# Altium schematic symbol library RF Development Board.SchLib: 2 symbols
Pins are listed as number, name and electrical type; pins without a type are passive.

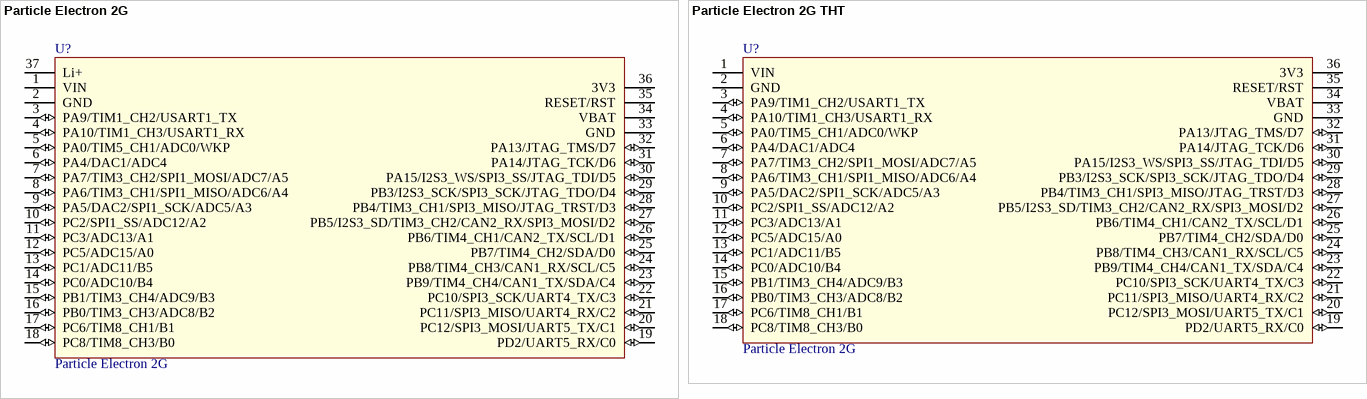
[diagram p0: symbols Particle Electron 2G to Particle Electron 2G THT]

## Particle Electron 2G
designator U?  (value not drawn)
Particle Electron 2G Development Board
pins: 1 VIN (power) "This pin can be used as an input or output. As an input, supply 5VDC to 12VDC to power the Electron. When the Electron is powered via the USB port, this pin will output a voltage of approximately 4.8VDC due to a reverse polarity protection series Schottky diode between VUSB and VIN. When used as an output, the max load on VIN is 1Amp.", 2 GND (power), 3 PA9/TIM1_CH2/USART1_TX (io) "Primarily used as UART RX, but can also be used as a digital GPIO or PWM[1].", 4 PA10/TIM1_CH3/USART1_RX (io) "Primarily used as UART TX, but can also be used as a digital GPIO or PWM[1].", 5 PA0/TIM5_CH1/ADC0/WKP (io) "Active-high wakeup pin, wakes the module from sleep/standby modes. When not used as a WAKEUP, this pin can also be used as a digital GPIO, ADC input or PWM[1]. Can be referred to as A7 when used as an ADC.", 6 PA4/DAC1/ADC4 (io) "12-bit Digital-to-Analog (D/A) output (0-4095), referred to as DAC or DAC1 in software. Can also be used as a digital GPIO or ADC. Can be referred to as A6 when used as an ADC.", 7 PA7/TIM3_CH2/SPI1_MOSI/ADC7/A5 (io) "12-bit Analog-to-Digital (A/D) inputs (0-4095), and also digital GPIOs. A6 and A7 are code convenience mappings, which means pins are not actually labeled as such but you may use code like analogRead(A7). A6 maps to the DAC pin and A7 maps to the WKP pin. A3 is also a second DAC output used as DAC2 or A3 in software. A4 and A5 can also be used as PWM[1] outputs.", 8 PA6/TIM3_CH1/SPI1_MISO/ADC6/A4 (io) "12-bit Analog-to-Digital (A/D) inputs (0-4095), and also digital GPIOs. A6 and A7 are code convenience mappings, which means pins are not actually labeled as such but you may use code like analogRead(A7). A6 maps to the DAC pin and A7 maps to the WKP pin. A3 is also a second DAC output used as DAC2 or A3 in software. A4 and A5 can also be used as PWM[1] outputs.", 9 PA5/DAC2/SPI1_SCK/ADC5/A3 (io) "12-bit Analog-to-Digital (A/D) inputs (0-4095), and also digital GPIOs. A6 and A7 are code convenience mappings, which means pins are not actually labeled as such but you may use code like analogRead(A7). A6 maps to the DAC pin and A7 maps to the WKP pin. A3 is also a second DAC output used as DAC2 or A3 in software. A4 and A5 can also be used as PWM[1] outputs.", 10 PC2/SPI1_SS/ADC12/A2 (io) "12-bit Analog-to-Digital (A/D) inputs (0-4095), and also digital GPIOs. A6 and A7 are code convenience mappings, which means pins are not actually labeled as such but you may use code like analogRead(A7). A6 maps to the DAC pin and A7 maps to the WKP pin. A3 is also a second DAC output used as DAC2 or A3 in software. A4 and A5 can also be used as PWM[1] outputs.", 11 PC3/ADC13/A1 (io) "12-bit Analog-to-Digital (A/D) inputs (0-4095), and also digital GPIOs. A6 and A7 are code convenience mappings, which means pins are not actually labeled as such but you may use code like analogRead(A7). A6 maps to the DAC pin and A7 maps to the WKP pin. A3 is also a second DAC output used as DAC2 or A3 in software. A4 and A5 can also be used as PWM[1] outputs.", 12 PC5/ADC15/A0 (io) "12-bit Analog-to-Digital (A/D) inputs (0-4095), and also digital GPIOs. A6 and A7 are code convenience mappings, which means pins are not actually labeled as such but you may use code like analogRead(A7). A6 maps to the DAC pin and A7 maps to the WKP pin. A3 is also a second DAC output used as DAC2 or A3 in software. A4 and A5 can also be used as PWM[1] outputs.", 13 PC1/ADC11/B5 (io) "B0 and B1 are digital only while B2, B3, B4, B5 are 12-bit A/D inputs as well as digital GPIOs. B0, B1, B2, B3 can also be used as PWM[1] outputs.", 14 PC0/ADC10/B4 (io) "B0 and B1 are digital only while B2, B3, B4, B5 are 12-bit A/D inputs as well as digital GPIOs. B0, B1, B2, B3 can also be used as PWM[1] outputs.", 15 PB1/TIM3_CH4/ADC9/B3 (io) "B0 and B1 are digital only while B2, B3, B4, B5 are 12-bit A/D inputs as well as digital GPIOs. B0, B1, B2, B3 can also be used as PWM[1] outputs.", 16 PB0/TIM3_CH3/ADC8/B2 (io) "B0 and B1 are digital only while B2, B3, B4, B5 are 12-bit A/D inputs as well as digital GPIOs. B0, B1, B2, B3 can also be used as PWM[1] outputs.", 17 PC6/TIM8_CH1/B1 (io) "B0 and B1 are digital only while B2, B3, B4, B5 are 12-bit A/D inputs as well as digital GPIOs. B0, B1, B2, B3 can also be used as PWM[1] outputs.", 18 PC8/TIM8_CH3/B0 (io) "B0 and B1 are digital only while B2, B3, B4, B5 are 12-bit A/D inputs as well as digital GPIOs. B0, B1, B2, B3 can also be used as PWM[1] outputs.", 19 PD2/UART5_RX/C0 (io) "Digital only GPIO. C4 and C5 can also be used as PWM[1] outputs.", 20 PC12/SPI3_MOSI/UART5_TX/C1 (io) "Digital only GPIO. C4 and C5 can also be used as PWM[1] outputs.", 21 PC11/SPI3_MISO/UART4_RX/C2 (io) "Digital only GPIO. C4 and C5 can also be used as PWM[1] outputs.", 22 PC10/SPI3_SCK/UART4_TX/C3 (io) "Digital only GPIO. C4 and C5 can also be used as PWM[1] outputs.", 23 PB9/TIM4_CH4/CAN1_TX/SDA/C4 (io) "Digital only GPIO. C4 and C5 can also be used as PWM[1] outputs.", 24 PB8/TIM4_CH3/CAN1_RX/SCL/C5 (io) "Digital only GPIO. C4 and C5 can also be used as PWM[1] outputs.", 25 PB7/TIM4_CH2/SDA/D0 (io) "Digital only GPIO. D0, D1, D2, D3 can also be used as PWM[1] outputs.", 26 PB6/TIM4_CH1/CAN2_TX/SCL/D1 (io) "Digital only GPIO. D0, D1, D2, D3 can also be used as PWM[1] outputs.", 27 PB5/I2S3_SD/TIM3_CH2/CAN2_RX/SPI3_MOSI/D2 (io) "Digital only GPIO. D0, D1, D2, D3 can also be used as PWM[1] outputs.", 28 PB4/TIM3_CH1/SPI3_MISO/JTAG_TRST/D3 (io) "Digital only GPIO. D0, D1, D2, D3 can also be used as PWM[1] outputs.", 29 PB3/I2S3_SCK/SPI3_SCK/JTAG_TDO/D4 (io) "Digital only GPIO. D0, D1, D2, D3 can also be used as PWM[1] outputs.", 30 PA15/I2S3_WS/SPI3_SS/JTAG_TDI/D5 (io) "Digital only GPIO. D0, D1, D2, D3 can also be used as PWM[1] outputs.", 31 PA14/JTAG_TCK/D6 (io) "Digital only GPIO. D0, D1, D2, D3 can also be used as PWM[1] outputs.", 32 PA13/JTAG_TMS/D7 (io) "Digital only GPIO. D0, D1, D2, D3 can also be used as PWM[1] outputs.", 33 GND (power), 34 VBAT (power) "Supply to the internal RTC, backup registers and SRAM when 3V3 is not present (1.65 to 3.6VDC). The Pin is internally connected to 3V3 supply via a 0 ohm resistor. If you wish to power is via an external supply, you'll need to remove this resistor. Instructions to remove this resistor can be found here", 35 RESET/RST "Active-low reset input. On-board circuitry contains a 10k ohm pull-up resistor between RST and 3V3, and 0.1uF capacitor between RST and GND.", 36 3V3 (power) "This pin is the output of the on-board regulator. When powering the Electron via VIN or the USB port, this pin will output a voltage of 3.3VDC. The max load on 3V3 is 800mA. It should not be used as an input to power the Electron.", 37 Li+ (power) "This pin is the output of the on-board regulator. When powering the Electron via VIN or the USB port, this pin will output a voltage of 3.3VDC. The max load on 3V3 is 800mA. It should not be used as an input to power the Electron."

## Particle Electron 2G THT
designator U?  (value not drawn)
Particle Electron 2G Development Board
pins: 1 VIN (power) "This pin can be used as an input or output. As an input, supply 5VDC to 12VDC to power the Electron. When the Electron is powered via the USB port, this pin will output a voltage of approximately 4.8VDC due to a reverse polarity protection series Schottky diode between VUSB and VIN. When used as an output, the max load on VIN is 1Amp.", 2 GND (power), 3 PA9/TIM1_CH2/USART1_TX (io) "Primarily used as UART RX, but can also be used as a digital GPIO or PWM[1].", 4 PA10/TIM1_CH3/USART1_RX (io) "Primarily used as UART TX, but can also be used as a digital GPIO or PWM[1].", 5 PA0/TIM5_CH1/ADC0/WKP (io) "Active-high wakeup pin, wakes the module from sleep/standby modes. When not used as a WAKEUP, this pin can also be used as a digital GPIO, ADC input or PWM[1]. Can be referred to as A7 when used as an ADC.", 6 PA4/DAC1/ADC4 (io) "12-bit Digital-to-Analog (D/A) output (0-4095), referred to as DAC or DAC1 in software. Can also be used as a digital GPIO or ADC. Can be referred to as A6 when used as an ADC.", 7 PA7/TIM3_CH2/SPI1_MOSI/ADC7/A5 (io) "12-bit Analog-to-Digital (A/D) inputs (0-4095), and also digital GPIOs. A6 and A7 are code convenience mappings, which means pins are not actually labeled as such but you may use code like analogRead(A7). A6 maps to the DAC pin and A7 maps to the WKP pin. A3 is also a second DAC output used as DAC2 or A3 in software. A4 and A5 can also be used as PWM[1] outputs.", 8 PA6/TIM3_CH1/SPI1_MISO/ADC6/A4 (io) "12-bit Analog-to-Digital (A/D) inputs (0-4095), and also digital GPIOs. A6 and A7 are code convenience mappings, which means pins are not actually labeled as such but you may use code like analogRead(A7). A6 maps to the DAC pin and A7 maps to the WKP pin. A3 is also a second DAC output used as DAC2 or A3 in software. A4 and A5 can also be used as PWM[1] outputs.", 9 PA5/DAC2/SPI1_SCK/ADC5/A3 (io) "12-bit Analog-to-Digital (A/D) inputs (0-4095), and also digital GPIOs. A6 and A7 are code convenience mappings, which means pins are not actually labeled as such but you may use code like analogRead(A7). A6 maps to the DAC pin and A7 maps to the WKP pin. A3 is also a second DAC output used as DAC2 or A3 in software. A4 and A5 can also be used as PWM[1] outputs.", 10 PC2/SPI1_SS/ADC12/A2 (io) "12-bit Analog-to-Digital (A/D) inputs (0-4095), and also digital GPIOs. A6 and A7 are code convenience mappings, which means pins are not actually labeled as such but you may use code like analogRead(A7). A6 maps to the DAC pin and A7 maps to the WKP pin. A3 is also a second DAC output used as DAC2 or A3 in software. A4 and A5 can also be used as PWM[1] outputs.", 11 PC3/ADC13/A1 (io) "12-bit Analog-to-Digital (A/D) inputs (0-4095), and also digital GPIOs. A6 and A7 are code convenience mappings, which means pins are not actually labeled as such but you may use code like analogRead(A7). A6 maps to the DAC pin and A7 maps to the WKP pin. A3 is also a second DAC output used as DAC2 or A3 in software. A4 and A5 can also be used as PWM[1] outputs.", 12 PC5/ADC15/A0 (io) "12-bit Analog-to-Digital (A/D) inputs (0-4095), and also digital GPIOs. A6 and A7 are code convenience mappings, which means pins are not actually labeled as such but you may use code like analogRead(A7). A6 maps to the DAC pin and A7 maps to the WKP pin. A3 is also a second DAC output used as DAC2 or A3 in software. A4 and A5 can also be used as PWM[1] outputs.", 13 PC1/ADC11/B5 (io) "B0 and B1 are digital only while B2, B3, B4, B5 are 12-bit A/D inputs as well as digital GPIOs. B0, B1, B2, B3 can also be used as PWM[1] outputs.", 14 PC0/ADC10/B4 (io) "B0 and B1 are digital only while B2, B3, B4, B5 are 12-bit A/D inputs as well as digital GPIOs. B0, B1, B2, B3 can also be used as PWM[1] outputs.", 15 PB1/TIM3_CH4/ADC9/B3 (io) "B0 and B1 are digital only while B2, B3, B4, B5 are 12-bit A/D inputs as well as digital GPIOs. B0, B1, B2, B3 can also be used as PWM[1] outputs.", 16 PB0/TIM3_CH3/ADC8/B2 (io) "B0 and B1 are digital only while B2, B3, B4, B5 are 12-bit A/D inputs as well as digital GPIOs. B0, B1, B2, B3 can also be used as PWM[1] outputs.", 17 PC6/TIM8_CH1/B1 (io) "B0 and B1 are digital only while B2, B3, B4, B5 are 12-bit A/D inputs as well as digital GPIOs. B0, B1, B2, B3 can also be used as PWM[1] outputs.", 18 PC8/TIM8_CH3/B0 (io) "B0 and B1 are digital only while B2, B3, B4, B5 are 12-bit A/D inputs as well as digital GPIOs. B0, B1, B2, B3 can also be used as PWM[1] outputs.", 19 PD2/UART5_RX/C0 (io) "Digital only GPIO. C4 and C5 can also be used as PWM[1] outputs.", 20 PC12/SPI3_MOSI/UART5_TX/C1 (io) "Digital only GPIO. C4 and C5 can also be used as PWM[1] outputs.", 21 PC11/SPI3_MISO/UART4_RX/C2 (io) "Digital only GPIO. C4 and C5 can also be used as PWM[1] outputs.", 22 PC10/SPI3_SCK/UART4_TX/C3 (io) "Digital only GPIO. C4 and C5 can also be used as PWM[1] outputs.", 23 PB9/TIM4_CH4/CAN1_TX/SDA/C4 (io) "Digital only GPIO. C4 and C5 can also be used as PWM[1] outputs.", 24 PB8/TIM4_CH3/CAN1_RX/SCL/C5 (io) "Digital only GPIO. C4 and C5 can also be used as PWM[1] outputs.", 25 PB7/TIM4_CH2/SDA/D0 (io) "Digital only GPIO. D0, D1, D2, D3 can also be used as PWM[1] outputs.", 26 PB6/TIM4_CH1/CAN2_TX/SCL/D1 (io) "Digital only GPIO. D0, D1, D2, D3 can also be used as PWM[1] outputs.", 27 PB5/I2S3_SD/TIM3_CH2/CAN2_RX/SPI3_MOSI/D2 (io) "Digital only GPIO. D0, D1, D2, D3 can also be used as PWM[1] outputs.", 28 PB4/TIM3_CH1/SPI3_MISO/JTAG_TRST/D3 (io) "Digital only GPIO. D0, D1, D2, D3 can also be used as PWM[1] outputs.", 29 PB3/I2S3_SCK/SPI3_SCK/JTAG_TDO/D4 (io) "Digital only GPIO. D0, D1, D2, D3 can also be used as PWM[1] outputs.", 30 PA15/I2S3_WS/SPI3_SS/JTAG_TDI/D5 (io) "Digital only GPIO. D0, D1, D2, D3 can also be used as PWM[1] outputs.", 31 PA14/JTAG_TCK/D6 (io) "Digital only GPIO. D0, D1, D2, D3 can also be used as PWM[1] outputs.", 32 PA13/JTAG_TMS/D7 (io) "Digital only GPIO. D0, D1, D2, D3 can also be used as PWM[1] outputs.", 33 GND (power), 34 VBAT (power) "Supply to the internal RTC, backup registers and SRAM when 3V3 is not present (1.65 to 3.6VDC). The Pin is internally connected to 3V3 supply via a 0 ohm resistor. If you wish to power is via an external supply, you'll need to remove this resistor. Instructions to remove this resistor can be found here", 35 RESET/RST "Active-low reset input. On-board circuitry contains a 10k ohm pull-up resistor between RST and 3V3, and 0.1uF capacitor between RST and GND.", 36 3V3 (power) "This pin is the output of the on-board regulator. When powering the Electron via VIN or the USB port, this pin will output a voltage of 3.3VDC. The max load on 3V3 is 800mA. It should not be used as an input to power the Electron."
text: Particle Electron 2G